# Altium footprint library Optics.PcbLib: 6 footprints
Each footprint in its own frame and in the unit in brackets; x right, y up, seen from the top. Pads: shape width x height; smd on the part's side, far side on the other; paste and mask are expansions set on the pad; w line width, h text height; cw(c..) or ccw(c..) is an arc to the next point about the centre after c.
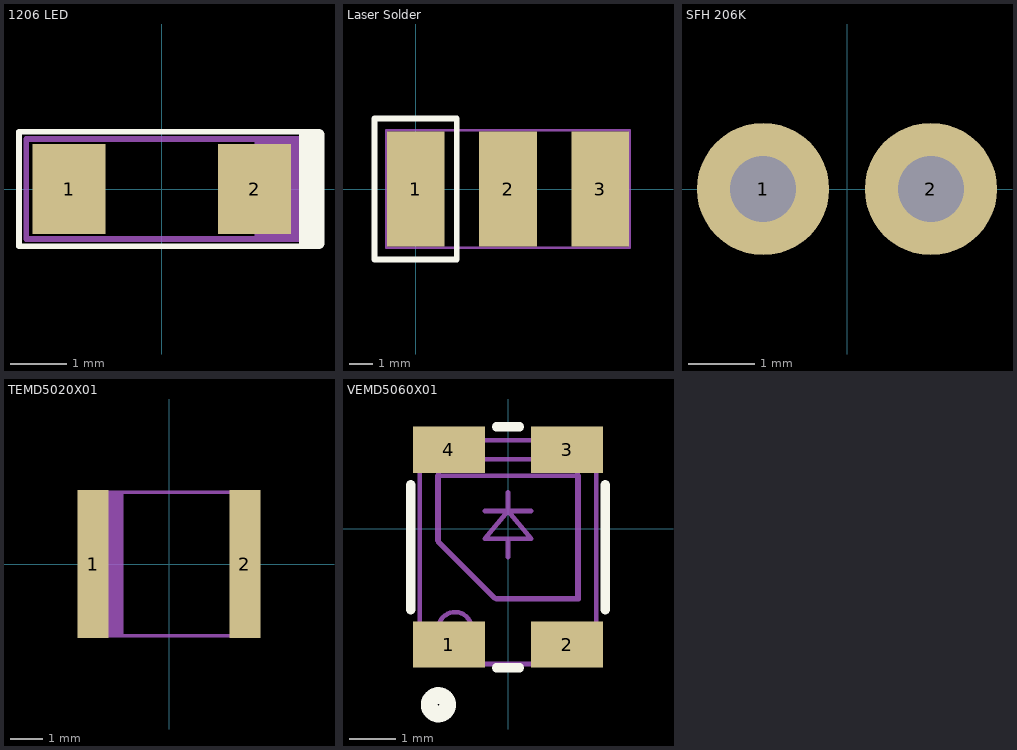
[diagram p0: the footprints below, top view; thin cyan lines are the x and y axes]

## 1206 LED [mm]
pads (2):
  rect 1.3x1.6 smd: 1(-1.65,0) 2(1.65,0)
Top Overlay:
  lines w0.1: 2.794,-1.016 -2.54,-1.016 -2.54,1.016 2.794,1.016
  lines w0.2: 2.54,-0.965 2.54,0.965 ; 2.667,-0.965 2.667,0.965 ; 2.794,-0.965 2.794,0.965
Mechanical 7:
  region: 2.413,0.889 1.651,0.889 1.651,-0.889 2.413,-0.889
  lines w0.1: -2.413,-0.889 2.413,-0.889 2.413,0.889 -2.413,0.889 -2.413,-0.889
  text ".Designator" at -1.143,-0.508 h1.5
3D body "HBR1105W-TR_LED.STEP": height 1.86, standoff 0.01, extent -1.6,-0.8 1.6,0.8

## Laser Solder [mm]
pads (3):
  rect 2.5x5 smd mask+0.051: 1(0,0) 2(4,0) 3(8,0)
Top Overlay:
  lines w0.254: -1.778,-3.048 -1.778,3.048 -1.27,3.048 1.778,3.048 1.778,-3.048 -1.778,-3.048
Bottom Overlay:
  lines w0.1: -1.778,-3.048 9.525,-3.048 9.525,2.921 -1.778,2.921 -1.778,-3.048
Mechanical 7:
  lines w0.1: -1.27,-2.54 -1.27,2.54 9.271,2.54 9.271,-2.54 -1.27,-2.54
  text ".Designator" at 1.651,-0.254 h2

## PCBComponent_1 [mm]

## SFH 206K [mm] "SFH206K"
pads (2):
  round 2 hole 1 mask+0.051: 1(-1.27,0) 2(1.27,0)
3D body: height 7, standoff 0, extent -2.5,-2.497 2.5,2.497
3D body: height 7, standoff 0, extent -2.5,-2.497 2.5,-0.254

## TEMD5020X01 [mm] "Vishay 4.5mm fast photodiode"
pads (2):
  rect 0.95x4.55 smd: 1(-2.325,0) 2(2.325,0)
Mechanical 2:
  lines w0.1: -2.6,-2.2 2.6,-2.2 2.6,2.2 -2.6,2.2 -2.6,-2.2
Mechanical 4:
  lines w0.1: -2.6,-2.2 2.6,-2.2 2.6,2.2 -2.6,2.2 -2.6,-2.2
Mechanical 7:
  rectangle: -2.286,-2.2 -1.397,2.2
  lines w0.1: -2.6,-2.2 -2.6,2.2 2.6,2.2 2.6,-2.2 -2.6,-2.2
  text ".Designator" at 0.635,-1.524 h2.5
3D body: height 1.12, standoff 0, extent -2.475,-2 2.525,2

## VEMD5060X01 [mm]
pads (4):
  rect 1.55x1 smd: 1(-1.275,-2.5) 2(1.275,-2.5) 3(1.275,1.7) 4(-1.275,1.7)
Top Overlay:
  circle w0.36: c-1.5,-3.8 r0.2
  lines w0.2: -2.1,-1.75 -2.1,0.95 ; -0.25,-3 0.25,-3 ; -0.25,2.2 0.25,2.2 ; 2.1,-1.75 2.1,0.95
Mechanical 4:
  lines w0.1: -0.5,0.381 0.5,0.381 ; 0,-0.619 0,-0.219 ; 0,0.781 0,0.381 ; 0,0.381 -0.5,-0.219 0.5,-0.219 0,0.381 ; -1.5,-0.3 -0.3,-1.5 1.5,-1.5 1.5,1.5 -1.5,1.5 -1.5,-0.3
Mechanical 7:
  circle w0.1: c-1.143,-2.159 r0.359
  lines w0.1: -1.905,-2.921 -1.905,1.905 1.905,1.905 1.905,-2.921 -1.905,-2.921 ; -1.524,-0.254 -1.524,1.143 1.524,1.143 1.524,-1.524 -0.254,-1.524 -1.524,-0.254
  text ".Designator" at -0.889,-0.381 h1.5
3D body: height 1.05, standoff 0, extent -2,-2.9 2,2.1